# Altium footprint library Capacitors.PcbLib: 88 footprints (part 5 of 6)
Each footprint in its own frame and in the unit in brackets; x right, y up, seen from the top. Pads: shape width x height; smd on the part's side, far side on the other; paste and mask are expansions set on the pad; w line width, h text height; cw(c..) or ccw(c..) is an arc to the next point about the centre after c.
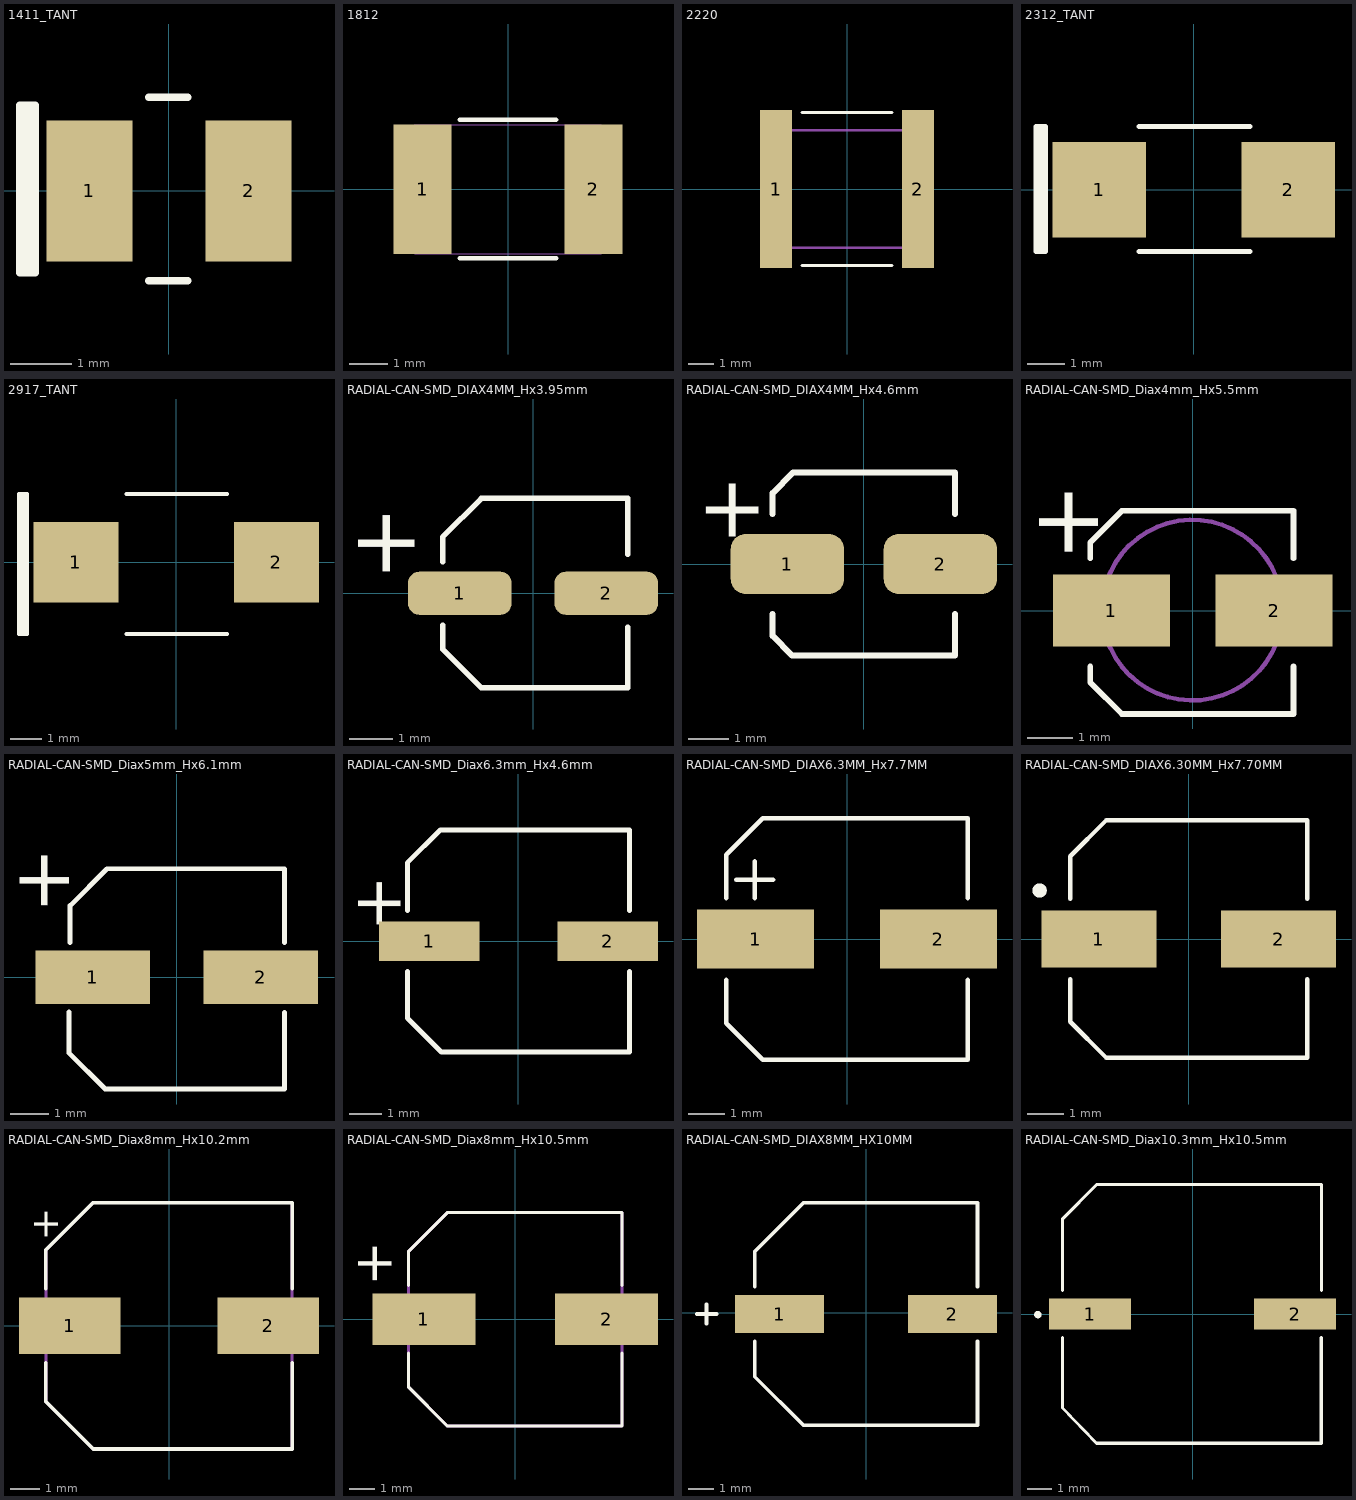
[diagram p4: the footprints below, top view; thin cyan lines are the x and y axes]

## 1411_TANT [mm] "20220701 / E.Naranjo"
pads (2):
  rect 1.405x2.3 smd: 1(-1.3,0) 2(1.3,0)
Top Overlay:
  lines w0.127: -2.31,-1.339 -2.31,1.393 ; -0.332,-1.469 0.303,-1.469 ; -0.332,1.529 0.303,1.529 ; -2.437,-1.339 -2.183,-1.339 -2.183,1.393 -2.437,1.393 -2.437,-1.339
3D body "CTSM_TCM2NK_3528_L3.7W3H2.1T0.13S0.8F2.3A1.9B0.55E2.2G1.8P0.5R1X0.2.step": height 2.12, standoff 0.01, extent -1.836,-1.471 1.864,1.529

## 1812 [mm] "/20220517/F-A.Ospina"
pads (2):
  rect 1.52x3.4 smd paste+0: 1(-2.248,0) 2(2.248,0)
Top Overlay:
  lines w0.127: -1.272,1.829 1.267,1.829 ; -1.27,-1.817 1.27,-1.817
Mechanical 13:
  lines w0.025: -2.451,-1.702 -2.451,1.702 ; -2.451,-1.702 -1.689,-1.702 -1.689,1.702 -2.451,1.702 ; -2.451,-1.702 -2.451,1.702 ; -2.451,-1.702 2.451,-1.702 ; -2.451,1.702 2.451,1.702 ; 2.451,-1.702 1.689,-1.702 1.689,1.702 2.451,1.702 ; 2.451,-1.702 2.451,1.702 ; 2.451,-1.702 2.451,1.702
3D body "CAP_CC1812_YAG.step": height 3.4, standoff 0, extent -2.451,-1.702 2.451,1.702

## 2220 [mm] "5750 Metric / 20190221 / C-A.Serna.A"
height 2.5
pads (2):
  rect 1.25x6.2 smd: 1(-2.775,0) 2(2.775,0)
Top Overlay:
  lines w0.127: -1.75,-3 1.75,-3 ; -1.75,3 1.75,3
Mechanical 1:
  lines w0.1: -3.05,-2.3 3.05,-2.3 3.05,2.3 -3.05,2.3 -3.05,-2.3
3D body: height 2.5, standoff 0, extent -3.05,-2.3 -2.7,2.3
3D body: height 2.5, standoff 0, extent -2.7,-2.3 2.7,2.3
3D body: height 2.5, standoff 0, extent 2.7,-2.3 3.05,2.3

## 2312_TANT [mm] "6032 Metric / 20230427 / J.Jaramillo"
pads (2):
  rect 2.5x2.55 smd: 1(-2.525,0) 2(2.525,0)
Top Overlay:
  lines w0.127: -4.089,-1.655 -4.089,1.69 ; -1.465,-1.655 1.505,-1.655 ; -1.465,1.69 1.505,1.69 ; -4.216,-1.655 -4.216,1.69 -3.962,1.69 -3.962,-1.655 -4.216,-1.655
3D body "2312.step": height 2.7, standoff 0, extent -3.085,-1.655 3.015,1.695

## 2917_TANT [mm] "7343 Metric / 20230427/ J.Jaramillo"
pads (2):
  rect 2.7x2.55 smd: 1(-3.175,0) 2(3.175,0)
Top Overlay:
  lines w0.127: -4.851,-2.285 -4.851,2.165 ; -1.58,-2.285 1.61,-2.285 ; -1.58,2.165 1.61,2.165 ; -4.978,-2.285 -4.978,2.165 -4.724,2.165 -4.724,-2.285 -4.978,-2.285
3D body "2917-3d.step": height 4.2, standoff 0, extent -3.685,-2.285 3.715,2.165

## RADIAL-CAN-SMD_DIAX4MM_Hx3.95mm [mm] "/20200715/N-A.Potosi"
pads (2):
  rrect50% 2.4x1 smd: 1(-1.7,0) 2(1.7,0)
Top Overlay:
  lines w0.127: -2.1,-0.738 -2.1,-1.3 -1.2,-2.2 2.2,-2.2 2.2,-0.786 ; -2.1,0.727 -2.1,1.3 -1.2,2.2 2.2,2.2 2.2,0.904
  text "+" at -4.064,2.032 h1.52
3D body "PCAP_4x3-ELECT_NCA.step": height 3.25, standoff 0, extent -2.502,-2.248 2.502,2.248

## RADIAL-CAN-SMD_DIAX4MM_Hx4.6mm [mm] "/20200416V-A.Patino"
pads (2):
  rrect50% 2.819x1.5 smd: 1(-1.905,0) 2(1.905,0)
Top Overlay:
  lines w0.152: -2.273,-1.247 -2.273,-1.791 -1.791,-2.273 2.273,-2.273 2.273,-1.247 ; -2.273,1.247 -2.273,1.765 -1.765,2.273 2.273,2.273 2.273,1.247
  text "+" at -4.153,0.675 h1.52
3D body "CAP_UZP_4X4P5-M.step": height 4.65, standoff 0, extent -2.541,-2.159 2.667,2.133

## RADIAL-CAN-SMD_Diax4mm_Hx5.5mm [mm] "20191118 / J-P.Vargas.A"
pads (2):
  rect 2.6x1.6 smd: 1(-1.8,0) 2(1.8,0)
Top Overlay:
  lines w0.127: -2.27,-1.24 -2.27,-1.59 -1.57,-2.29 2.23,-2.29 2.23,-1.24 ; -2.27,1.16 -2.27,1.51 -1.57,2.21 2.23,2.21 2.23,1.16
  text "+" at -3.4,2.83 h1.52
Mechanical 1:
  circle w0.1: c-0.01,0.01 r2
3D body "865090640005.step": height 5.21, standoff -0.29, extent -2.503,-2.15 2.504,2.15

## RADIAL-CAN-SMD_Diax5mm_Hx6.1mm [mm] "20190618 / M.X-Arias"
pads (2):
  rect 3x1.4 smd: 1(-2.2,0) 2(2.2,0)
Top Overlay:
  lines w0.127: -2.819,-0.9 -2.819,-1.981 -1.88,-2.921 2.819,-2.921 2.819,-0.91 ; -2.794,0.91 -2.794,1.88 -1.829,2.845 2.819,2.845 2.819,0.91
  text "+" at -4.11,3.41 h1.52
3D body "CAP_SMD_radial.stp": height 6.15, standoff 0, extent -3.241,-2.726 3.261,2.786

## RADIAL-CAN-SMD_Diax6.3mm_Hx4.6mm [mil] "20200923/ V-A.Patino"
pads (2):
  rect 122x48 smd: 1(-108.5,0) 2(108.5,0)
Top Overlay:
  lines w6: -135,-37.1 -135,-93.5 -93.5,-135 135,-135 135,-37.1 ; -135,37.1 -135,95.04 -95.04,135 135,135 135,37.1
  text "+" at -195,80 h60
3D body: height 10, standoff 0, extent 0,0 10,10
3D body "CAP_UZP_6P3X4P5_NCH.step": height 183.11, standoff 0, extent -149.48,-130 149.49,130

## RADIAL-CAN-SMD_DIAX6.3MM_Hx7.7MM [mm] "/20220517/F-A.Ospina"
pads (2):
  rect 3.2x1.6 smd: 1(-2.5,0) 2(2.5,0)
Top Overlay:
  lines w0.127: -3.3,-1.12 -3.3,-2.3 -2.3,-3.3 3.3,-3.3 3.3,-1.12 ; -3.3,1.12 -3.3,2.3 -2.3,3.3 3.3,3.3 3.3,1.12 ; -3.024,1.619 -2.024,1.619 ; -2.524,1.119 -2.524,2.119
3D body "step_temp.STEP": height 7.7, standoff 0, extent -3.65,-3.325 3.65,3.275

## RADIAL-CAN-SMD_DIAX6.30MM_Hx7.70MM [mm] "/20220623/F-A.Ospina"
pads (2):
  rect 3.2x1.6 smd: 1(-2.5,0) 2(2.5,0)
Top Overlay:
  circle w0.2: c-4.15,1.35 r0.1
  lines w0.127: -3.3,-1.12 -3.3,-2.3 -2.3,-3.3 3.3,-3.3 3.3,-1.12 ; -3.3,1.12 -3.3,2.3 -2.3,3.3 3.3,3.3 3.3,1.12
3D body "EEE1CA221XP.STEP": height 7.71, standoff 0.01, extent -3.636,-3.3 3.664,3.3

## RADIAL-CAN-SMD_Diax8mm_Hx10.2mm [mm] "/  270326 / J.Jaramillo"
pads (2):
  rect 3.5x1.95 smd: 1(-3.425,0) 2(3.425,0)
Top Overlay:
  lines w0.127: -4.25,-1.275 -4.25,-2.613 -2.612,-4.25 4.25,-4.25 4.25,-1.275 ; -4.25,1.275 -4.25,2.612 -2.612,4.25 4.25,4.25 4.25,1.275
  text "+" at -4.65,4.064 h1
Mechanical 1:
  lines w0.1: -4.25,-2.613 -2.612,-4.25 4.25,-4.25 4.25,4.25 -2.612,4.25 -4.25,2.612 -4.25,-2.613
3D body "CAPAE9383X108L.step": height 10.8, standoff 0, extent -4.65,-4.25 4.65,4.25

## RADIAL-CAN-SMD_Diax8mm_Hx10.5mm [mm] "20220804/J-E.Pachon"
pads (2):
  rect 4x2 smd: 1(-3.55,0) 2(3.55,0)
Top Overlay:
  lines w0.127: -4.15,-1.32 -4.15,-2.65 -2.65,-4.15 4.15,-4.15 4.15,-1.32 ; -4.15,1.32 -4.15,2.65 -2.65,4.15 4.15,4.15 4.15,1.32
  text "+" at -6.115,3.035 h1.52
Mechanical 13:
  lines w0.127: -4.15,-2.65 -4.15,2.65 -2.65,4.15 4.15,4.15 4.15,-4.15 -2.65,-4.15 -4.15,-2.65
3D body "step_temp.STEP": height 10.2, standoff 0, extent -4.85,-4.15 4.85,4.15

## RADIAL-CAN-SMD_DIAX8MM_HX10MM [mil] "/ 270326 / J.Jaramillo"
pads (2):
  rect 138x59 smd: 1(-134.15,-1.74) 2(133.85,-1.74)
Top Overlay:
  lines w6: -262.15,-1.74 -232.15,-1.74 ; -247.15,-16.74 -247.15,13.26 ; -172.65,-44.34 -172.65,-98.93 -97.35,-174.24 172.35,-174.24 172.35,-44.34 ; -172.65,40.86 -172.65,95.32 -97.21,170.76 172.35,170.76 172.35,40.86
3D body "PCAP_8x10-ELECT_NCA.step": height 407.09, standoff 0, extent -183.14,-169.22 182.84,165.74

## RADIAL-CAN-SMD_Diax10.3mm_Hx10.5mm [mil] "20220805/J-E.Pachon"
pads (2):
  rect 134x51 smd paste+0: 1(-167.5,0) 2(167.5,0)
Top Overlay:
  circle w6: c-252.89,-0.98 r3
  lines w5: -212.48,-38.6 -212.48,-153.69 -156.7,-211.5 ; -212.48,38.6 -212.73,155.1 -156.7,211.56 ; -156.7,211.5 210.52,211.5 210.52,38.6
  lines w6: -156.7,-211.5 210.52,-211.5 210.52,-38.6
3D body "CAP_60557008_WRE.step": height 415.12, standoff 0, extent -223.46,-206.5 221.5,206.5